# EAGLE library part M50-3101045 (library J-Harwin-M50-3101045-20pin-F-SMT-1.27mm)
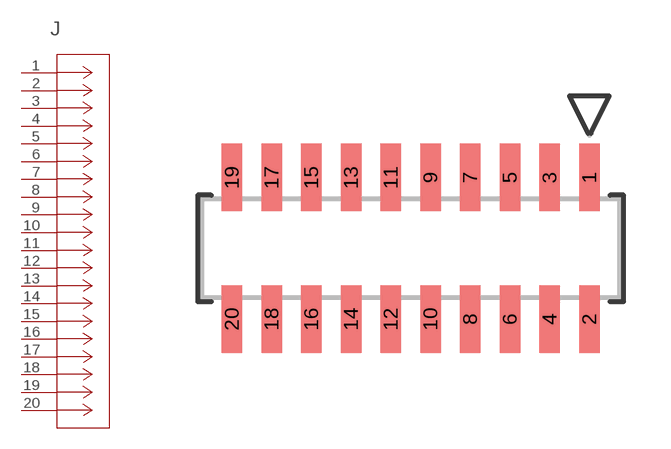
[diagram p0: symbol with the pads of CONN20_M50-3101045_HRW; footprint CONN20_M50-3101045_HRW]

Designator prefix J

## M50-3101045 (BUILT_BY: EMA_Kyle; COPYRIGHT: Copyright (C) 2018 Accelerated Designs. All rights reserved; DATASHEET: https://cdn.harwin.com/pdfs/M50-310.pdf; MANUFACTURER_PART_NUMBER: M50-3101045; SOURCELIBRARY: Harwin_2020-02-18; VENDOR: Harwin)  [CONN20_M50-3101045_HRW]
1  1  pas
2  2  pas
3  3  pas
4  4  pas
5  5  pas
6  6  pas
7  7  pas
8  8  pas
9  9  pas
10  10  pas
11  11  pas
12  12  pas
13  13  pas
14  14  pas
15  15  pas
16  16  pas
17  17  pas
18  18  pas
19  19  pas
20  20  pas

## Footprint CONN20_M50-3101045_HRW (pad centres in mm)
smd 0.66 x 2.159: 1 5.715,2.265; 2 5.715,-2.265; 3 4.445,2.265; 4 4.445,-2.265; 5 3.175,2.265; 6 3.175,-2.265; 7 1.905,2.265; 8 1.905,-2.265; 9 0.635,2.265; 10 0.635,-2.265; 11 -0.635,2.265; 12 -0.635,-2.265; 13 -1.905,2.265; 14 -1.905,-2.265; 15 -3.175,2.265; 16 -3.175,-2.265; 17 -4.445,2.265; 18 -4.445,-2.265; 19 -5.715,2.265; 20 -5.715,-2.265